# EAGLE library part RPI4 (library X16-Pi-Shield)
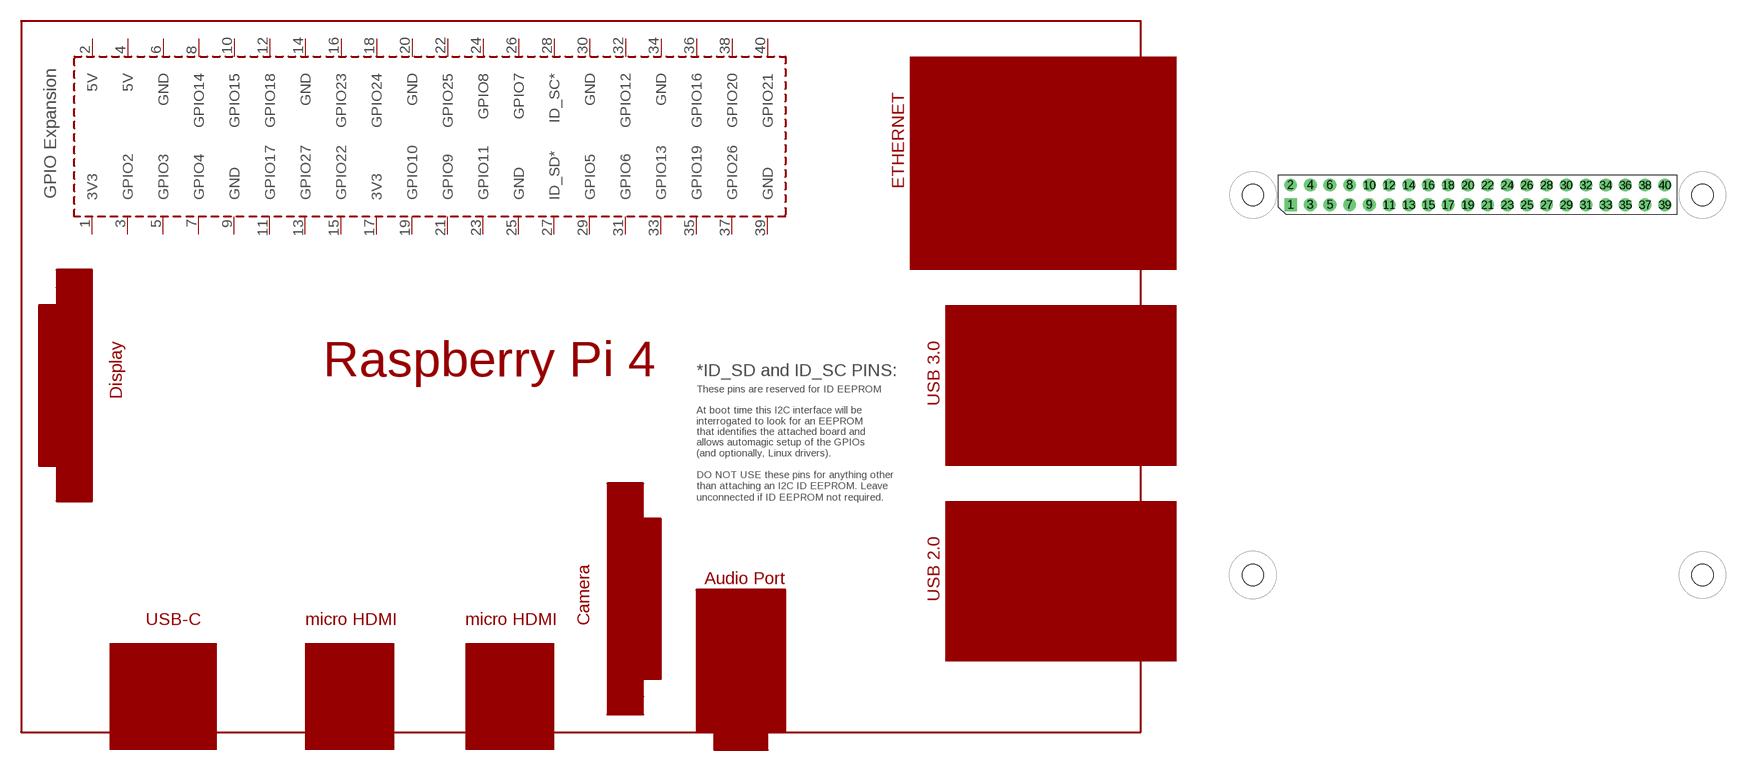
[diagram p1: symbol with the pads of RPI4; footprint RPI4]

Designator prefix -

## RPI4  [RPI4]
1  3V3
2  5V
3  GPIO2
4  5V
5  GPIO3
6  GND
7  GPIO4
8  GPIO14
9  GND
10  GPIO15
11  GPIO17
12  GPIO18
13  GPIO27
14  GND
15  GPIO22
16  GPIO23
17  3V3
18  GPIO24
19  GPIO10
20  GND
21  GPIO9
22  GPIO25
23  GPIO11
24  GPIO8
25  GND
26  GPIO7
27  ID_SD*
28  ID_SC*
29  GPIO5
30  GND
31  GPIO6
32  GPIO12
33  GPIO13
34  GND
35  GPIO19
36  GPIO16
37  GPIO26
38  GPIO20
39  GND
40  GPIO21

## Footprint RPI4 (pad centres in mm)
Footprint for Raspberry Pi 4 based on dimensions from https://www.raspberrypi.org/documentation/hardware/raspberrypi/mechanical/README.md
drill 1.016 pad 1.651 square: 1 8.37,51.23
drill 1.016 pad 1.651: 2 8.357,53.772; 3 10.897,51.232; 4 10.897,53.772; 5 13.437,51.232; 6 13.437,53.772; 7 15.977,51.232; 8 15.977,53.772; 9 18.517,51.232; 10 18.517,53.772; 11 21.057,51.232; 12 21.057,53.772; 13 23.597,51.232; 14 23.597,53.772; 15 26.137,51.232; 16 26.137,53.772; 17 28.677,51.232; 18 28.677,53.772; 19 31.217,51.232; 20 31.217,53.772; 21 33.757,51.232; 22 33.757,53.772; 23 36.297,51.232; 24 36.297,53.772; 25 38.837,51.232; 26 38.837,53.772; 27 41.377,51.232; 28 41.377,53.772; 29 43.917,51.232; 30 43.917,53.772; 31 46.457,51.232; 32 46.457,53.772; 33 48.997,51.232; 34 48.997,53.772; 35 51.537,51.232; 36 51.537,53.772; 37 54.077,51.232; 38 54.077,53.772; 39 56.617,51.232; 40 56.617,53.772
hole 2.75 at 3.5,3.5
hole 2.75 at 61.5,3.5
hole 2.75 at 3.5,52.5
hole 2.75 at 61.5,52.5